# Altium schematic symbol library NPN2.Schlib: 1 symbol
Pins are listed as number, name and electrical type; pins without a type are passive.

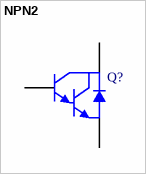
[diagram p0: symbol NPN2]

## NPN2
designator Q?
NPN Darlington Bipolar Transistor
pins: 1 C, 2 B, 3 E